# EAGLE library part 6570XX130201_657007130201 (library WR-MPC5)
WR-MPC5 5.70 mm Male Header Single Row Vertical Kind Properties Pitch 5.7 mm Rows Single Type Vertical Operating Temperature -40 up to +105 °C Durability 25 Mating cycles Material Properties Insulator Material LCP Insulator Color Black Insulator Flammability Rating UL94 V-0 Pin Material Copper Alloy Pin Plating Tin over Nickel Packaging Properties Packaging Tray Electric Properties IR 26 A Working Voltage 600 V (AC) Withstanding Voltage 2200 V (AC) Contact Resistance 2 mΩ Certification UL Approval E323964 <https://www.we-online.com/components/media/o731532v209%20WR-MPC5_6570xx130201_Multi-parts.jpg> Details see: www.we-online.com/components/products/WR_MPC5_5_70_MM_MALE_HEADER_SINGLE_ROW_VERTICAL <www.we-online.com/catalog/WR_MPC5_5_70_MM_MALE_HEADER_SINGLE_ROW_VERTICAL/?utm_source=eagle_model&utm_medium=description_link&utm_campaign=eisos_eagle> Updated by Ella 2023-10-09 2023 (C) Würth Elektronik
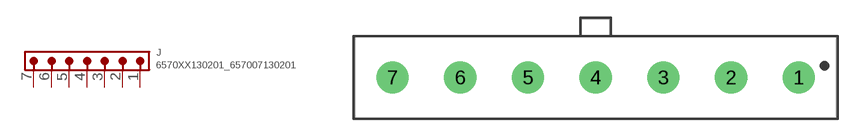
[diagram p2: symbol with the pads of 657007130201; footprint 657007130201]

Designator prefix J

## 6570XX130201_657007130201 (CONTACT-RESISTANCE: 2mOhm; DATASHEET-URL: https://www.we-online.com/redexpert/spec/657007130201?ae; GENDER: Male; IR: 26A; MOUNT: THT; PART-NUMBER: 657007130201; PITCH: 5.7mm; POLARITY: 7; ROWS: single; TYPE: Vertical; VALUE: 657007130201; WORKING-VOLTAGE: 600V (AC))  [657007130201]
1  1  pas
2  2  pas
3  3  pas
4  4  pas
5  5  pas
6  6  pas
7  7  pas

## Footprint 657007130201 (pad centres in mm)
WR-MPC5 Single Row Male Header Vertical THT, 7pins
drill 1.8: 1 17.1,0; 2 11.4,0; 3 5.7,0; 4 0,0; 5 -5.7,0; 6 -11.4,0; 7 -17.1,0